# Altium footprint library PCB - LEADLESS - QFN - NXP HVQFN32 7X7MM SOT865-3.PCBLIB: 1 footprints
Each footprint in its own frame and in the unit in brackets; x right, y up, seen from the top. Pads: shape width x height; smd on the part's side, far side on the other; paste and mask are expansions set on the pad; w line width, h text height; cw(c..) or ccw(c..) is an arc to the next point about the centre after c.
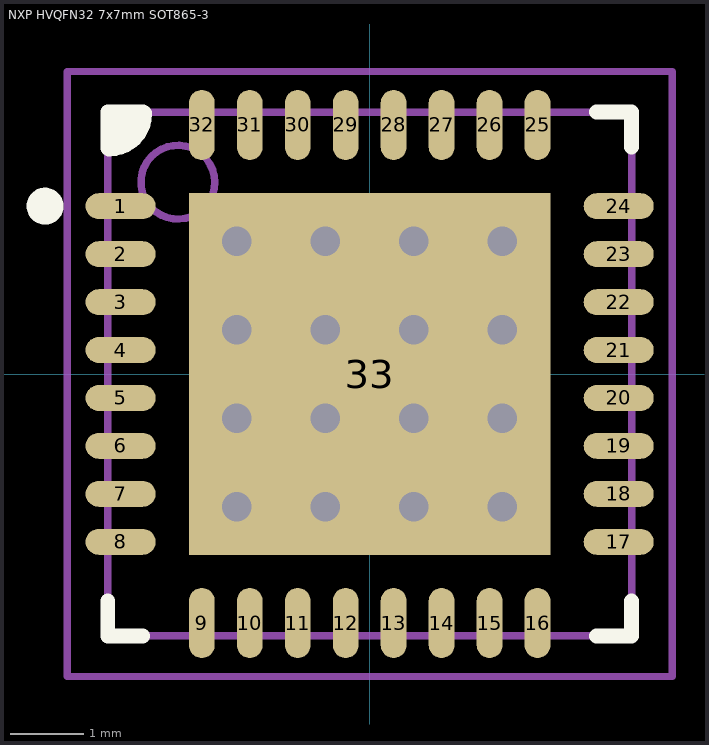
[diagram p0: the footprint, top view; thin cyan lines are the x and y axes]

## NXP HVQFN32 7x7mm SOT865-3 [mm] "QFN, 32-Leads, Body 7.1x7.1mm (max), Pitch 0.65mm, IPC Medium Density"
height 1
pads (33):
  oval 0.95x0.35 smd: 1(-3.375,2.275) 2(-3.375,1.625) 3(-3.375,0.975) 4(-3.375,0.325) 5(-3.375,-0.325) 6(-3.375,-0.975) 7(-3.375,-1.625) 8(-3.375,-2.275) 17(3.375,-2.275) 18(3.375,-1.625) 19(3.375,-0.975) 20(3.375,-0.325) 21(3.375,0.325) 22(3.375,0.975) 23(3.375,1.625) 24(3.375,2.275)
  oval 0.35x0.95 smd: 9(-2.275,-3.375) 10(-1.625,-3.375) 11(-0.975,-3.375) 12(-0.325,-3.375) 13(0.325,-3.375) 14(0.975,-3.375) 15(1.625,-3.375) 16(2.275,-3.375) 25(2.275,3.375) 26(1.625,3.375) 27(0.975,3.375) 28(0.325,3.375) 29(-0.325,3.375) 30(-0.975,3.375) 31(-1.625,3.375) 32(-2.275,3.375)
  rect 4.9x4.9 smd: 33(0,0)
via 1.8,-1.8 diameter 0.8 hole 0.4
via 0.6,-1.8 diameter 0.8 hole 0.4
via -0.6,-1.8 diameter 0.8 hole 0.4
via -1.8,-1.8 diameter 0.8 hole 0.4
via 1.8,-0.6 diameter 0.8 hole 0.4
via 0.6,-0.6 diameter 0.8 hole 0.4
via -0.6,-0.6 diameter 0.8 hole 0.4
via -1.8,-0.6 diameter 0.8 hole 0.4
via 1.8,0.6 diameter 0.8 hole 0.4
via 0.6,0.6 diameter 0.8 hole 0.4
via -0.6,0.6 diameter 0.8 hole 0.4
via -1.8,0.6 diameter 0.8 hole 0.4
via 1.8,1.8 diameter 0.8 hole 0.4
via 0.6,1.8 diameter 0.8 hole 0.4
via -0.6,1.8 diameter 0.8 hole 0.4
via -1.8,1.8 diameter 0.8 hole 0.4
Top Overlay:
  circle w0.25: c-4.4,2.275 r0.125
  rectangle: -3.302,3.175 -3.175,3.302
  rectangle: -3.302,3.302 -3.048,3.55
  rectangle: -3.55,3.048 -3.302,3.55
  lines w0.2: -3.55,-3.075 -3.55,-3.55 -3.075,-3.55 ; 3.075,-3.55 3.55,-3.55 3.55,-3.075 ; 3.075,3.55 3.55,3.55 3.55,3.075 ; -3.55,3.075 ccw(c-3.525,3.075) -3.525,3.05 ccw(c-3.525,3.525) -3.05,3.525 ccw(c-3.075,3.525) -3.075,3.55 -3.55,3.55 -3.55,3.075
Mechanical 13:
  circle w0.1: c-2.6,2.6 r0.5
  lines w0.1: -3.55,-3.55 3.55,-3.55 3.55,3.55 -3.55,3.55 -3.55,-3.55
Mechanical 15:
  lines w0.1: -0.5,0 0.5,0 ; 0,-0.5 0,0.5 ; -4.1,-4.1 4.1,-4.1 4.1,4.1 -4.1,4.1 -4.1,-4.1
3D body: height 1, standoff 0, extent -3.55,-3.55 3.55,3.55